# Altium schematic symbol library DC-DC converters.SchLib: 6 symbols
Pins are listed as number, name and electrical type; pins without a type are passive.

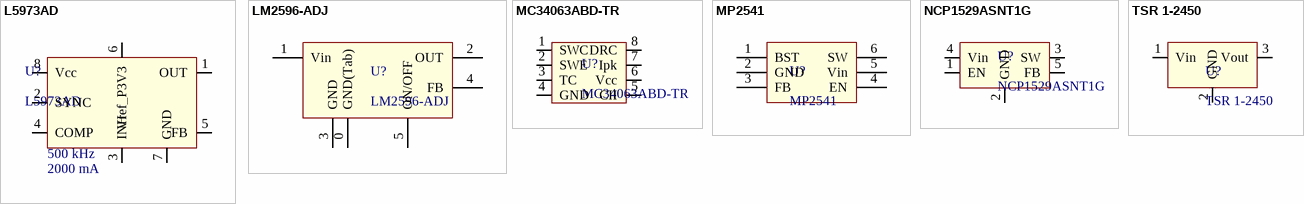
[diagram p0: symbols L5973AD to TSR 1-2450]

## L5973AD
designator U?  Imax: 2000 mA  Fswitch: 500 kHz
2 A switch step down switching regulator; Vin_min: 4 V; Efficiency_min: 80 %; Vin_max: 36 V
footprint LC-HSOP-8
pins: 1 OUT, 2 SYNC, 3 INH, 4 COMP, 5 FB, 6 Vref_P3V3, 7 GND, 8 Vcc

## LM2596-ADJ
designator U?
LM2596 Adjustable Stepdown Buck Converter; Supplier 1: Digi-Key; Supplier 2: Digi-Key; Supplier 3: Digi-Key; Supplier Part Number 1: 296-35399-6-ND; Supplier Part Number 2: LM2596DSADJR4GOSDKR-ND; Supplier Part Number 3: LM2596DSADJGOS-ND
footprint LC-TO-263-5
pins: 0 GND(Tab), 1 Vin, 2 OUT, 3 GND, 4 FB, 5 ON/OFF

## MC34063ABD-TR
designator U?
Buck/Boost/Inverting DC-DC converter; Imax: 1500 mA; Vin_min: 3 V; Vin_max: 40 V; Efficiency_min: 80 %; Fswitch: 100 kHz; ViLogic_max: 7.0 V
footprint LC-SOIC-8_150mil
pins: 1 SWC, 2 SWE, 3 TC, 4 GND, 5 CII, 6 Vcc, 7 Ipk, 8 DRC

## MP2541
designator U?
MP2541 Step-down
footprint LC-SOT-23-6
pins: 1 BST, 2 GND, 3 FB, 4 EN, 5 Vin, 6 SW

## NCP1529ASNT1G
designator U?
Step-down DC-DC converter; Imax: 1000 mA; Vin_min: 2.7 V; Vin_max: 5.5 V; Vout_min: 0.9 V; Vout_max: 3.9 V; Efficiency_min: 80 %; Fswitch: 1.7 MHz; ViLogic_max: 7.0 V
footprint LC-SOT-23-5
pins: 1 EN, 2 GND, 3 SW, 4 Vin, 5 FB

## TSR 1-2450
designator U?
TSR 1-2450 Fixed 5.0V output step-down DC-DC converter; Vin_min: 6.5 V; Vin_max: 32 V; Imax: 1000 mA
footprint TSR-1 TRACO (TRACO non-isolated DC-DC converted)
pins: 1 Vin, 2 GND, 3 Vout